# Altium integrated library Silicon Labs Isolation and Power.IntLib: 421 symbols (part 12 of 19)
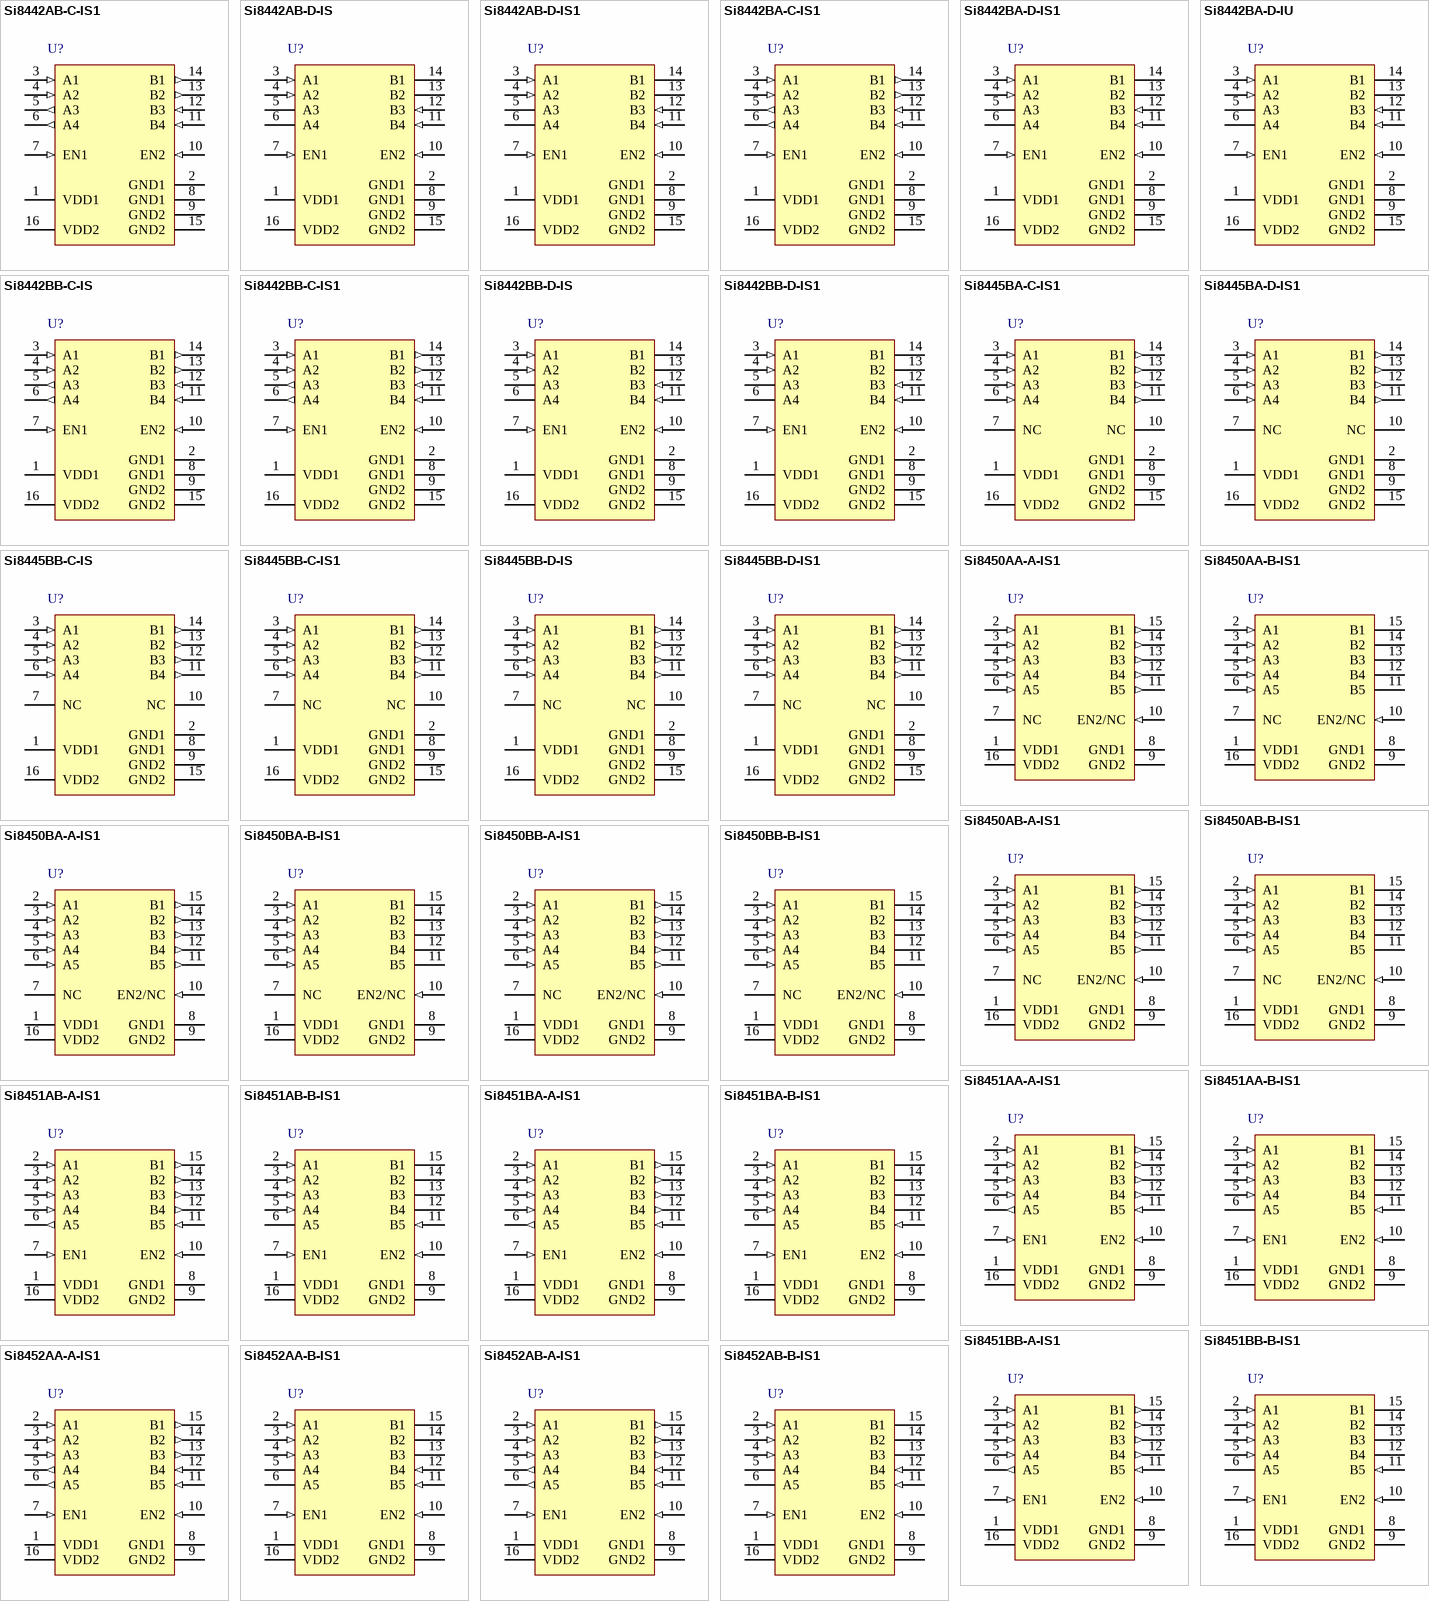
[diagram p25: symbols Si8442AB-C-IS1 to Si8452AB-B-IS1]

## Si8445BB-D-IS1
designator U?
Low-Power Quad-Channel Digital Isolator, 150 Mbps, 2.5 kVRMS Isolation Rating, -40 to 125 degC, 16-pin SOIC; Manufacturer: Silicon Labs; PartNumber: Si8445BB-D-IS1; 10kV surge: FALSE; AEC-Q100: TRUE; Channel Type: Unidirectional; Isolation Rating (kV): 2.5; Maximum Data Rate (Mbps): 150; Maximum Propagation Delay (ns): 9.5; Sub-Family: Isolators; DatasheetVersion: Rev. 1.5; PackageReference: SOIC-16-NB; PackageDescription: 16-Pin Small-Outline Integrated Circuit, Body 9.9 x 3.9 mm, Pitch 1.27 mm; Supplier 1: Digi-Key; Supplier Part Number 1: SI8445BB-D-IS1-ND; Supplier 2: Mouser; Supplier Part Number 2: 634-SI8445BB-D-IS1; Enable Control: FALSE; Mounting Technology: Surface Mount; Code_JEDEC: MS-012; Code_IPC: J-STD-020; ComponentLink1Description: Manufacturer URL; ComponentLink1URL: http://www.silabs.com/; ComponentLink2Description: Datasheet; ComponentLink2URL: http://www.silabs.com/Support%20Documents/TechnicalDocs/Si844x.pdf; ComponentLink3Description: Package Specification; ComponentLink3URL: http://www.silabs.com/Support%20Documents/TechnicalDocs/si2401.pdf
footprint SLAB-SOIC-16-NB_N (SOIC, 16-Leads, Body 9.9x3.9mm, Pitch 1.27mm, IPC Medium Density)
footprint SLAB-SOIC-16-NB_L (SOIC, 16-Leads, Body 9.9x3.9mm, Pitch 1.27mm, IPC High Density)
footprint SLAB-SOIC-16-NB_M (SOIC, 16-Leads, Body 9.9x3.9mm, Pitch 1.27mm, IPC Low Density)
pins: 1 VDD1 (power) "Side 1 power supply.", 2 GND1 (power) "Side 1 ground.", 3 A1 (in) "Side 1 digital input.", 4 A2 (in) "Side 1 digital input.", 5 A3 (in) "Side 1 digital input.", 6 A4 (in) "Side 1 digital input.", 7 NC "No Connect", 8 GND1 (power) "Side 1 ground.", 9 GND2 (power) "Side 2 ground.", 10 NC "No Connect", 11 B4 (out) "Side 2 digital output.", 12 B3 (out) "Side 2 digital output.", 13 B2 (out) "Side 2 digital output.", 14 B1 (out) "Side 2 digital output.", 15 GND2 (power) "Side 2 ground.", 16 VDD2 (power) "Side 2 power supply."

## Si8450AA-A-IS1
designator U?
Low Power Five-Channel Digital Isolator, 1 Mbps, 1 kVRMS Isolation Rating, -40 to 125 degC, 16-pin SOIC; Manufacturer: Silicon Labs; PartNumber: Si8450AA-A-IS1; 10kV surge: FALSE; Channel Type: Unidirectional; Enable Control: TRUE; Isolation Rating (kV): 1; Maximum Propagation Delay (ns): 35; Sub-Family: Isolators; DatasheetVersion: Rev. 1.4; PackageReference: SOIC-16-NB; PackageDescription: 16-Pin Small-Outline Integrated Circuit, Body 9.9 x 3.9 mm, Pitch 1.27 mm; Supplier 1: Digi-Key; Supplier Part Number 1: SI8450AA-A-IS1-ND; AEC-Q100: FALSE; Maximum Data Rate (Mbps): 1; Mounting Technology: Surface Mount; Code_JEDEC: MS-012; Code_IPC: J-STD-020; ComponentLink1Description: Manufacturer URL; ComponentLink1URL: http://www.silabs.com/; ComponentLink2Description: Datasheet; ComponentLink2URL: http://www.silabs.com/Support%20Documents/TechnicalDocs/Si845x.pdf; ComponentLink3Description: Package Specification; ComponentLink3URL: http://www.silabs.com/Support%20Documents/TechnicalDocs/si2401.pdf
footprint SLAB-SOIC-16-NB_N (SOIC, 16-Leads, Body 9.9x3.9mm, Pitch 1.27mm, IPC Medium Density)
footprint SLAB-SOIC-16-NB_L (SOIC, 16-Leads, Body 9.9x3.9mm, Pitch 1.27mm, IPC High Density)
footprint SLAB-SOIC-16-NB_M (SOIC, 16-Leads, Body 9.9x3.9mm, Pitch 1.27mm, IPC Low Density)
pins: 1 VDD1 (power) "Side 1 power supply.", 2 A1 (in) "Side 1 digital input.", 3 A2 (in) "Side 1 digital input.", 4 A3 (in) "Side 1 digital input.", 5 A4 (in) "Side 1 digital input.", 6 A5 (in) "Side 1 digital input.", 7 NC "Side 1 active high enable. NC on Si8450.", 8 GND1 (power) "Side 1 ground.", 9 GND2 (power) "Side 2 ground.", 10 EN2/NC (in), 11 B5 (out) "Side 2 digital output.", 12 B4 (out) "Side 2 digital output.", 13 B3 (out) "Side 2 digital output.", 14 B2 (out) "Side 2 digital output.", 15 B1 (out) "Side 2 digital output.", 16 VDD2 (power) "Side 2 power supply."

## Si8450AA-B-IS1
designator U?
Low Power Five-Channel Digital Isolator, 1 Mbps, 1 kVRMS Isolation Rating, -40 to 125 degC, 16-pin SOIC; Manufacturer: Silicon Labs; PartNumber: Si8450AA-B-IS1; 10kV surge: FALSE; Channel Type: Unidirectional; Enable Control: TRUE; Isolation Rating (kV): 1; Maximum Propagation Delay (ns): 35; Sub-Family: Isolators; DatasheetVersion: Rev. 1.4; PackageReference: SOIC-16-NB; PackageDescription: 16-Pin Small-Outline Integrated Circuit, Body 9.9 x 3.9 mm, Pitch 1.27 mm; Supplier 1: Digi-Key; Supplier Part Number 1: SI8450AA-B-IS1-ND; Supplier 2: Mouser; Supplier Part Number 2: 634-SI8450AA-B-IS1; AEC-Q100: FALSE; Maximum Data Rate (Mbps): 1; Mounting Technology: Surface Mount; Code_JEDEC: MS-012; Code_IPC: J-STD-020; ComponentLink1Description: Manufacturer URL; ComponentLink1URL: http://www.silabs.com/; ComponentLink2Description: Datasheet; ComponentLink2URL: http://www.silabs.com/Support%20Documents/TechnicalDocs/Si845x.pdf; ComponentLink3Description: Package Specification; ComponentLink3URL: http://www.silabs.com/Support%20Documents/TechnicalDocs/si2401.pdf
footprint SLAB-SOIC-16-NB_N (SOIC, 16-Leads, Body 9.9x3.9mm, Pitch 1.27mm, IPC Medium Density)
footprint SLAB-SOIC-16-NB_L (SOIC, 16-Leads, Body 9.9x3.9mm, Pitch 1.27mm, IPC High Density)
footprint SLAB-SOIC-16-NB_M (SOIC, 16-Leads, Body 9.9x3.9mm, Pitch 1.27mm, IPC Low Density)
pins: 1 VDD1 (power) "Side 1 power supply.", 2 A1 (in) "Side 1 digital input.", 3 A2 (in) "Side 1 digital input.", 4 A3 (in) "Side 1 digital input.", 5 A4 (in) "Side 1 digital input.", 6 A5 (in) "Side 1 digital input.", 7 NC "No connection.", 8 GND1 (power) "Side 1 ground.", 9 GND2 (power) "Side 2 ground.", 10 EN2/NC (in) "Side 2 active high enable.No connection.", 11 B5 (hiz) "Side 2 digital output.", 12 B4 (hiz) "Side 2 digital  output.", 13 B3 (hiz) "Side 2 digital output.", 14 B2 (hiz) "Side 2 digital output.", 15 B1 (hiz) "Side 2 digital output.", 16 VDD2 (power) "Side 2 power supply."

## Si8450AB-A-IS1
designator U?
Low Power Five-Channel Digital Isolator, 1 Mbps, 2.5 kVRMS Isolation Rating, -40 to 125 degC, 16-pin SOIC; Manufacturer: Silicon Labs; PartNumber: Si8450AB-A-IS1; 10kV surge: FALSE; Channel Type: Unidirectional; Enable Control: TRUE; Isolation Rating (kV): 2.5; Maximum Data Rate (Mbps): 1; Maximum Propagation Delay (ns): 35; Sub-Family: Isolators; DatasheetVersion: Rev. 1.4; PackageReference: SOIC-16-NB; PackageDescription: 16-Pin Small-Outline Integrated Circuit, Body 9.9 x 3.9 mm, Pitch 1.27 mm; Supplier 1: Digi-Key; Supplier Part Number 1: SI8450AB-A-IS1-ND; Supplier 2: Mouser; Supplier Part Number 2: 634-SI8450AB-A-IS1; AEC-Q100: FALSE; Mounting Technology: Surface Mount; Code_JEDEC: MS-012; Code_IPC: J-STD-020; ComponentLink1Description: Manufacturer URL; ComponentLink1URL: http://www.silabs.com/; ComponentLink2Description: Datasheet; ComponentLink2URL: http://www.silabs.com/Support%20Documents/TechnicalDocs/Si845x.pdf; ComponentLink3Description: Package Specification; ComponentLink3URL: http://www.silabs.com/Support%20Documents/TechnicalDocs/si2401.pdf
footprint SLAB-SOIC-16-NB_N (SOIC, 16-Leads, Body 9.9x3.9mm, Pitch 1.27mm, IPC Medium Density)
footprint SLAB-SOIC-16-NB_L (SOIC, 16-Leads, Body 9.9x3.9mm, Pitch 1.27mm, IPC High Density)
footprint SLAB-SOIC-16-NB_M (SOIC, 16-Leads, Body 9.9x3.9mm, Pitch 1.27mm, IPC Low Density)
pins: 1 VDD1 (power) "Side 1 power supply.", 2 A1 (in) "Side 1 digital input.", 3 A2 (in) "Side 1 digital input.", 4 A3 (in) "Side 1 digital input.", 5 A4 (in) "Side 1 digital input.", 6 A5 (in) "Side 1 digital input.", 7 NC "Side 1 active high enable. NC on Si8450.", 8 GND1 (power) "Side 1 ground.", 9 GND2 (power) "Side 2 ground.", 10 EN2/NC (in), 11 B5 (out) "Side 2 digital output.", 12 B4 (out) "Side 2 digital output.", 13 B3 (out) "Side 2 digital output.", 14 B2 (out) "Side 2 digital output.", 15 B1 (out) "Side 2 digital output.", 16 VDD2 (power) "Side 2 power supply."

## Si8450AB-B-IS1
designator U?
Low Power Five-Channel Digital Isolator, 1 Mbps, 2.5 kVRMS Isolation Rating, -40 to 125 degC, 16-pin SOIC; Manufacturer: Silicon Labs; PartNumber: Si8450AB-B-IS1; 10kV surge: FALSE; Channel Type: Unidirectional; Enable Control: TRUE; Isolation Rating (kV): 2.5; Maximum Data Rate (Mbps): 1; Maximum Propagation Delay (ns): 35; Sub-Family: Isolators; DatasheetVersion: Rev. 1.4; PackageReference: SOIC-16-NB; PackageDescription: 16-Pin Small-Outline Integrated Circuit, Body 9.9 x 3.9 mm, Pitch 1.27 mm; Supplier 1: Digi-Key; Supplier Part Number 1: SI8450AB-B-IS1-ND; Supplier 2: Mouser; Supplier Part Number 2: 634-SI8450AB-B-IS1; AEC-Q100: FALSE; Mounting Technology: Surface Mount; Code_JEDEC: MS-012; Code_IPC: J-STD-020; ComponentLink1Description: Manufacturer URL; ComponentLink1URL: http://www.silabs.com/; ComponentLink2Description: Datasheet; ComponentLink2URL: http://www.silabs.com/Support%20Documents/TechnicalDocs/Si845x.pdf; ComponentLink3Description: Package Specification; ComponentLink3URL: http://www.silabs.com/Support%20Documents/TechnicalDocs/si2401.pdf
footprint SLAB-SOIC-16-NB_N (SOIC, 16-Leads, Body 9.9x3.9mm, Pitch 1.27mm, IPC Medium Density)
footprint SLAB-SOIC-16-NB_L (SOIC, 16-Leads, Body 9.9x3.9mm, Pitch 1.27mm, IPC High Density)
footprint SLAB-SOIC-16-NB_M (SOIC, 16-Leads, Body 9.9x3.9mm, Pitch 1.27mm, IPC Low Density)
pins: 1 VDD1 (power) "Side 1 power supply.", 2 A1 (in) "Side 1 digital input.", 3 A2 (in) "Side 1 digital input.", 4 A3 (in) "Side 1 digital input.", 5 A4 (in) "Side 1 digital input.", 6 A5 (in) "Side 1 digital input.", 7 NC "No connection.", 8 GND1 (power) "Side 1 ground.", 9 GND2 (power) "Side 2 ground.", 10 EN2/NC (in) "Side 2 active high enable.No connection.", 11 B5 (hiz) "Side 2 digital output.", 12 B4 (hiz) "Side 2 digital  output.", 13 B3 (hiz) "Side 2 digital output.", 14 B2 (hiz) "Side 2 digital output.", 15 B1 (hiz) "Side 2 digital output.", 16 VDD2 (power) "Side 2 power supply."

## Si8450BA-A-IS1
designator U?
Low Power Five-Channel Digital Isolator, 150 Mbps, 1 kVRMS Isolation Rating, -40 to 125 degC, 16-pin SOIC; Manufacturer: Silicon Labs; PartNumber: Si8450BA-A-IS1; 10kV surge: FALSE; Channel Type: Unidirectional; Enable Control: TRUE; Isolation Rating (kV): 1; Maximum Data Rate (Mbps): 150; Maximum Propagation Delay (ns): 9.5; Sub-Family: Isolators; DatasheetVersion: Rev. 1.4; PackageReference: SOIC-16-NB; PackageDescription: 16-Pin Small-Outline Integrated Circuit, Body 9.9 x 3.9 mm, Pitch 1.27 mm; Supplier 1: Digi-Key; Supplier Part Number 1: SI8450BA-A-IS1-ND; Supplier 2: Mouser; Supplier Part Number 2: 634-SI8450BA-A-IS1; AEC-Q100: FALSE; Mounting Technology: Surface Mount; Code_JEDEC: MS-012; Code_IPC: J-STD-020; ComponentLink1Description: Manufacturer URL; ComponentLink1URL: http://www.silabs.com/; ComponentLink2Description: Datasheet; ComponentLink2URL: http://www.silabs.com/Support%20Documents/TechnicalDocs/Si845x.pdf; ComponentLink3Description: Package Specification; ComponentLink3URL: http://www.silabs.com/Support%20Documents/TechnicalDocs/si2401.pdf
footprint SLAB-SOIC-16-NB_N (SOIC, 16-Leads, Body 9.9x3.9mm, Pitch 1.27mm, IPC Medium Density)
footprint SLAB-SOIC-16-NB_L (SOIC, 16-Leads, Body 9.9x3.9mm, Pitch 1.27mm, IPC High Density)
footprint SLAB-SOIC-16-NB_M (SOIC, 16-Leads, Body 9.9x3.9mm, Pitch 1.27mm, IPC Low Density)
pins: 1 VDD1 (power) "Side 1 power supply.", 2 A1 (in) "Side 1 digital input.", 3 A2 (in) "Side 1 digital input.", 4 A3 (in) "Side 1 digital input.", 5 A4 (in) "Side 1 digital input.", 6 A5 (in) "Side 1 digital input.", 7 NC "Side 1 active high enable. NC on Si8450.", 8 GND1 (power) "Side 1 ground.", 9 GND2 (power) "Side 2 ground.", 10 EN2/NC (in), 11 B5 (out) "Side 2 digital output.", 12 B4 (out) "Side 2 digital output.", 13 B3 (out) "Side 2 digital output.", 14 B2 (out) "Side 2 digital output.", 15 B1 (out) "Side 2 digital output.", 16 VDD2 (power) "Side 2 power supply."

## Si8450BA-B-IS1
designator U?
Low Power Five-Channel Digital Isolator, 150 Mbps, 1 kVRMS Isolation Rating, -40 to 125 degC, 16-pin SOIC; Manufacturer: Silicon Labs; PartNumber: Si8450BA-B-IS1; 10kV surge: FALSE; Channel Type: Unidirectional; Enable Control: TRUE; Isolation Rating (kV): 1; Maximum Data Rate (Mbps): 150; Maximum Propagation Delay (ns): 9.5; Sub-Family: Isolators; DatasheetVersion: Rev. 1.4; PackageReference: SOIC-16-NB; PackageDescription: 16-Pin Small-Outline Integrated Circuit, Body 9.9 x 3.9 mm, Pitch 1.27 mm; Supplier 1: Digi-Key; Supplier Part Number 1: SI8450BA-B-IS1-ND; Supplier 2: Mouser; Supplier Part Number 2: 634-SI8450BA-B-IS1; AEC-Q100: FALSE; Mounting Technology: Surface Mount; Code_JEDEC: MS-012; Code_IPC: J-STD-020; ComponentLink1Description: Manufacturer URL; ComponentLink1URL: http://www.silabs.com/; ComponentLink2Description: Datasheet; ComponentLink2URL: http://www.silabs.com/Support%20Documents/TechnicalDocs/Si845x.pdf; ComponentLink3Description: Package Specification; ComponentLink3URL: http://www.silabs.com/Support%20Documents/TechnicalDocs/si2401.pdf
footprint SLAB-SOIC-16-NB_N (SOIC, 16-Leads, Body 9.9x3.9mm, Pitch 1.27mm, IPC Medium Density)
footprint SLAB-SOIC-16-NB_L (SOIC, 16-Leads, Body 9.9x3.9mm, Pitch 1.27mm, IPC High Density)
footprint SLAB-SOIC-16-NB_M (SOIC, 16-Leads, Body 9.9x3.9mm, Pitch 1.27mm, IPC Low Density)
pins: 1 VDD1 (power) "Side 1 power supply.", 2 A1 (in) "Side 1 digital input.", 3 A2 (in) "Side 1 digital input.", 4 A3 (in) "Side 1 digital input.", 5 A4 (in) "Side 1 digital input.", 6 A5 (in) "Side 1 digital input.", 7 NC "No connection.", 8 GND1 (power) "Side 1 ground.", 9 GND2 (power) "Side 2 ground.", 10 EN2/NC (in) "Side 2 active high enable.No connection.", 11 B5 (hiz) "Side 2 digital output.", 12 B4 (hiz) "Side 2 digital  output.", 13 B3 (hiz) "Side 2 digital output.", 14 B2 (hiz) "Side 2 digital output.", 15 B1 (hiz) "Side 2 digital output.", 16 VDD2 (power) "Side 2 power supply."

## Si8450BB-A-IS1
designator U?
Low Power Five-Channel Digital Isolator, 150 Mbps, 2.5 kVRMS Isolation Rating, -40 to 125 degC, 16-pin SOIC; Manufacturer: Silicon Labs; PartNumber: Si8450BB-A-IS1; 10kV surge: FALSE; Channel Type: Unidirectional; Enable Control: TRUE; Isolation Rating (kV): 2.5; Maximum Data Rate (Mbps): 150; Maximum Propagation Delay (ns): 9.5; Sub-Family: Isolators; DatasheetVersion: Rev. 1.4; PackageReference: SOIC-16-NB; PackageDescription: 16-Pin Small-Outline Integrated Circuit, Body 9.9 x 3.9 mm, Pitch 1.27 mm; Supplier 1: Digi-Key; Supplier Part Number 1: SI8450BB-A-IS1-ND; AEC-Q100: FALSE; Mounting Technology: Surface Mount; Code_JEDEC: MS-012; Code_IPC: J-STD-020; ComponentLink1Description: Manufacturer URL; ComponentLink1URL: http://www.silabs.com/; ComponentLink2Description: Datasheet; ComponentLink2URL: http://www.silabs.com/Support%20Documents/TechnicalDocs/Si845x.pdf; ComponentLink3Description: Package Specification; ComponentLink3URL: http://www.silabs.com/Support%20Documents/TechnicalDocs/si2401.pdf
footprint SLAB-SOIC-16-NB_N (SOIC, 16-Leads, Body 9.9x3.9mm, Pitch 1.27mm, IPC Medium Density)
footprint SLAB-SOIC-16-NB_L (SOIC, 16-Leads, Body 9.9x3.9mm, Pitch 1.27mm, IPC High Density)
footprint SLAB-SOIC-16-NB_M (SOIC, 16-Leads, Body 9.9x3.9mm, Pitch 1.27mm, IPC Low Density)
pins: 1 VDD1 (power) "Side 1 power supply.", 2 A1 (in) "Side 1 digital input.", 3 A2 (in) "Side 1 digital input.", 4 A3 (in) "Side 1 digital input.", 5 A4 (in) "Side 1 digital input.", 6 A5 (in) "Side 1 digital input.", 7 NC "Side 1 active high enable. NC on Si8450.", 8 GND1 (power) "Side 1 ground.", 9 GND2 (power) "Side 2 ground.", 10 EN2/NC (in), 11 B5 (out) "Side 2 digital output.", 12 B4 (out) "Side 2 digital output.", 13 B3 (out) "Side 2 digital output.", 14 B2 (out) "Side 2 digital output.", 15 B1 (out) "Side 2 digital output.", 16 VDD2 (power) "Side 2 power supply."

## Si8450BB-B-IS1
designator U?
Low Power Five-Channel Digital Isolator, 150 Mbps, 2.5 kVRMS Isolation Rating, -40 to 125 degC, 16-pin SOIC; Manufacturer: Silicon Labs; PartNumber: Si8450BB-B-IS1; 10kV surge: FALSE; Channel Type: Unidirectional; Enable Control: TRUE; Isolation Rating (kV): 2.5; Maximum Data Rate (Mbps): 150; Maximum Propagation Delay (ns): 9.5; Sub-Family: Isolators; DatasheetVersion: Rev. 1.4; PackageReference: SOIC-16-NB; PackageDescription: 16-Pin Small-Outline Integrated Circuit, Body 9.9 x 3.9 mm, Pitch 1.27 mm; Supplier 1: Digi-Key; Supplier Part Number 1: SI8450BB-B-IS1-ND; Supplier 2: Mouser; Supplier Part Number 2: 634-SI8450BB-B-IS1; AEC-Q100: FALSE; Mounting Technology: Surface Mount; Code_JEDEC: MS-012; Code_IPC: J-STD-020; ComponentLink1Description: Manufacturer URL; ComponentLink1URL: http://www.silabs.com/; ComponentLink2Description: Datasheet; ComponentLink2URL: http://www.silabs.com/Support%20Documents/TechnicalDocs/Si845x.pdf; ComponentLink3Description: Package Specification; ComponentLink3URL: http://www.silabs.com/Support%20Documents/TechnicalDocs/si2401.pdf
footprint SLAB-SOIC-16-NB_N (SOIC, 16-Leads, Body 9.9x3.9mm, Pitch 1.27mm, IPC Medium Density)
footprint SLAB-SOIC-16-NB_L (SOIC, 16-Leads, Body 9.9x3.9mm, Pitch 1.27mm, IPC High Density)
footprint SLAB-SOIC-16-NB_M (SOIC, 16-Leads, Body 9.9x3.9mm, Pitch 1.27mm, IPC Low Density)
pins: 1 VDD1 (power) "Side 1 power supply.", 2 A1 (in) "Side 1 digital input.", 3 A2 (in) "Side 1 digital input.", 4 A3 (in) "Side 1 digital input.", 5 A4 (in) "Side 1 digital input.", 6 A5 (in) "Side 1 digital input.", 7 NC "No connection.", 8 GND1 (power) "Side 1 ground.", 9 GND2 (power) "Side 2 ground.", 10 EN2/NC (in) "Side 2 active high enable.No connection.", 11 B5 (hiz) "Side 2 digital output.", 12 B4 (hiz) "Side 2 digital  output.", 13 B3 (hiz) "Side 2 digital output.", 14 B2 (hiz) "Side 2 digital output.", 15 B1 (hiz) "Side 2 digital output.", 16 VDD2 (power) "Side 2 power supply."

## Si8451AA-A-IS1
designator U?
Low Power Five-Channel Digital Isolator, 1 Mbps, 1 kVRMS Isolation Rating, -40 to 125 degC, 16-pin SOIC; Manufacturer: Silicon Labs; PartNumber: Si8451AA-A-IS1; 10kV surge: FALSE; Channel Type: Unidirectional; Enable Control: TRUE; Isolation Rating (kV): 1; Maximum Propagation Delay (ns): 35; Sub-Family: Isolators; DatasheetVersion: Rev. 1.4; PackageReference: SOIC-16-NB; PackageDescription: 16-Pin Small-Outline Integrated Circuit, Body 9.9 x 3.9 mm, Pitch 1.27 mm; Supplier 1: Digi-Key; Supplier Part Number 1: SI8451AA-A-IS1-ND; AEC-Q100: FALSE; Maximum Data Rate (Mbps): 1; Mounting Technology: Surface Mount; Code_JEDEC: MS-012; Code_IPC: J-STD-020; ComponentLink1Description: Manufacturer URL; ComponentLink1URL: http://www.silabs.com/; ComponentLink2Description: Datasheet; ComponentLink2URL: http://www.silabs.com/Support%20Documents/TechnicalDocs/Si845x.pdf; ComponentLink3Description: Package Specification; ComponentLink3URL: http://www.silabs.com/Support%20Documents/TechnicalDocs/si2401.pdf
footprint SLAB-SOIC-16-NB_N (SOIC, 16-Leads, Body 9.9x3.9mm, Pitch 1.27mm, IPC Medium Density)
footprint SLAB-SOIC-16-NB_L (SOIC, 16-Leads, Body 9.9x3.9mm, Pitch 1.27mm, IPC High Density)
footprint SLAB-SOIC-16-NB_M (SOIC, 16-Leads, Body 9.9x3.9mm, Pitch 1.27mm, IPC Low Density)
pins: 1 VDD1 (power) "Side 1 power supply.", 2 A1 (in) "Side 1 digital input.", 3 A2 (in) "Side 1 digital input.", 4 A3 (in) "Side 1 digital input.", 5 A4 (in) "Side 1 digital input.", 6 A5 (out) "Side 1 digital output.", 7 EN1 (in) "Side 1 active high enable.", 8 GND1 (power) "Side 1 ground.", 9 GND2 (power) "Side 2 ground.", 10 EN2 (in) "Side 2 active high enable.", 11 B5 (in) "Side 2 digital input.", 12 B4 (out) "Side 2 digital output.", 13 B3 (out) "Side 2 digital output.", 14 B2 (out) "Side 2 digital output.", 15 B1 (out) "Side 2 digital output.", 16 VDD2 (power) "Side 2 power supply."

## Si8451AA-B-IS1
designator U?
Low Power Five-Channel Digital Isolator, 1 Mbps, 1 kVRMS Isolation Rating, -40 to 125 degC, 16-pin SOIC; Manufacturer: Silicon Labs; PartNumber: Si8451AA-B-IS1; 10kV surge: FALSE; Channel Type: Unidirectional; Enable Control: TRUE; Isolation Rating (kV): 1; Maximum Propagation Delay (ns): 35; Sub-Family: Isolators; DatasheetVersion: Rev. 1.4; PackageReference: SOIC-16-NB; PackageDescription: 16-Pin Small-Outline Integrated Circuit, Body 9.9 x 3.9 mm, Pitch 1.27 mm; Supplier 1: Digi-Key; Supplier Part Number 1: SI8451AA-B-IS1-ND; Supplier 2: Mouser; Supplier Part Number 2: 634-SI8451AA-B-IS1; AEC-Q100: FALSE; Maximum Data Rate (Mbps): 1; Mounting Technology: Surface Mount; Code_JEDEC: MS-012; Code_IPC: J-STD-020; ComponentLink1Description: Manufacturer URL; ComponentLink1URL: http://www.silabs.com/; ComponentLink2Description: Datasheet; ComponentLink2URL: http://www.silabs.com/Support%20Documents/TechnicalDocs/Si845x.pdf; ComponentLink3Description: Package Specification; ComponentLink3URL: http://www.silabs.com/Support%20Documents/TechnicalDocs/si2401.pdf
footprint SLAB-SOIC-16-NB_N (SOIC, 16-Leads, Body 9.9x3.9mm, Pitch 1.27mm, IPC Medium Density)
footprint SLAB-SOIC-16-NB_L (SOIC, 16-Leads, Body 9.9x3.9mm, Pitch 1.27mm, IPC High Density)
footprint SLAB-SOIC-16-NB_M (SOIC, 16-Leads, Body 9.9x3.9mm, Pitch 1.27mm, IPC Low Density)
pins: 1 VDD1 (power) "Side 1 power supply.", 2 A1 (in) "Side 1 digital input.", 3 A2 (in) "Side 1 digital input.", 4 A3 (in) "Side 1 digital input.", 5 A4 (in) "Side 1 digital input", 6 A5 (hiz) "Side 1 digital output.", 7 EN1 (in) "Side 1 active high enable.", 8 GND1 (power) "Side 1 ground.", 9 GND2 (power) "Side 2 ground.", 10 EN2 (in) "Side 2 active high enable.", 11 B5 (in) "Side 2 digital input", 12 B4 (hiz) "Side 2 digital output.", 13 B3 (hiz) "Side 2 digital output.", 14 B2 (hiz) "Side 2 digital output.", 15 B1 (hiz) "Side 2 digital output.", 16 VDD2 (power) "Side 2 power supply."

## Si8451AB-A-IS1
designator U?
Low Power Five-Channel Digital Isolator, 1 Mbps, 2.5 kVRMS Isolation Rating, -40 to 125 degC, 16-pin SOIC; Manufacturer: Silicon Labs; PartNumber: Si8451AB-A-IS1; 10kV surge: FALSE; Channel Type: Unidirectional; Enable Control: TRUE; Isolation Rating (kV): 2.5; Maximum Data Rate (Mbps): 1; Maximum Propagation Delay (ns): 35; Sub-Family: Isolators; DatasheetVersion: Rev. 1.4; PackageReference: SOIC-16-NB; PackageDescription: 16-Pin Small-Outline Integrated Circuit, Body 9.9 x 3.9 mm, Pitch 1.27 mm; Supplier 1: Digi-Key; Supplier Part Number 1: SI8451AB-A-IS1-ND; AEC-Q100: FALSE; Mounting Technology: Surface Mount; Code_JEDEC: MS-012; Code_IPC: J-STD-020; ComponentLink1Description: Manufacturer URL; ComponentLink1URL: http://www.silabs.com/; ComponentLink2Description: Datasheet; ComponentLink2URL: http://www.silabs.com/Support%20Documents/TechnicalDocs/Si845x.pdf; ComponentLink3Description: Package Specification; ComponentLink3URL: http://www.silabs.com/Support%20Documents/TechnicalDocs/si2401.pdf
footprint SLAB-SOIC-16-NB_N (SOIC, 16-Leads, Body 9.9x3.9mm, Pitch 1.27mm, IPC Medium Density)
footprint SLAB-SOIC-16-NB_L (SOIC, 16-Leads, Body 9.9x3.9mm, Pitch 1.27mm, IPC High Density)
footprint SLAB-SOIC-16-NB_M (SOIC, 16-Leads, Body 9.9x3.9mm, Pitch 1.27mm, IPC Low Density)
pins: 1 VDD1 (power) "Side 1 power supply.", 2 A1 (in) "Side 1 digital input.", 3 A2 (in) "Side 1 digital input.", 4 A3 (in) "Side 1 digital input.", 5 A4 (in) "Side 1 digital input.", 6 A5 (out) "Side 1 digital output.", 7 EN1 (in) "Side 1 active high enable.", 8 GND1 (power) "Side 1 ground.", 9 GND2 (power) "Side 2 ground.", 10 EN2 (in) "Side 2 active high enable.", 11 B5 (in) "Side 2 digital input.", 12 B4 (out) "Side 2 digital output.", 13 B3 (out) "Side 2 digital output.", 14 B2 (out) "Side 2 digital output.", 15 B1 (out) "Side 2 digital output.", 16 VDD2 (power) "Side 2 power supply."

## Si8451AB-B-IS1
designator U?
Low Power Five-Channel Digital Isolator, 1 Mbps, 2.5 kVRMS Isolation Rating, -40 to 125 degC, 16-pin SOIC; Manufacturer: Silicon Labs; PartNumber: Si8451AB-B-IS1; 10kV surge: FALSE; Channel Type: Unidirectional; Enable Control: TRUE; Isolation Rating (kV): 2.5; Maximum Data Rate (Mbps): 1; Maximum Propagation Delay (ns): 35; Sub-Family: Isolators; DatasheetVersion: Rev. 1.4; PackageReference: SOIC-16-NB; PackageDescription: 16-Pin Small-Outline Integrated Circuit, Body 9.9 x 3.9 mm, Pitch 1.27 mm; Supplier 1: Digi-Key; Supplier Part Number 1: SI8451AB-B-IS1-ND; Supplier 2: Mouser; Supplier Part Number 2: 634-SI8451AB-B-IS1; AEC-Q100: FALSE; Mounting Technology: Surface Mount; Code_JEDEC: MS-012; Code_IPC: J-STD-020; ComponentLink1Description: Manufacturer URL; ComponentLink1URL: http://www.silabs.com/; ComponentLink2Description: Datasheet; ComponentLink2URL: http://www.silabs.com/Support%20Documents/TechnicalDocs/Si845x.pdf; ComponentLink3Description: Package Specification; ComponentLink3URL: http://www.silabs.com/Support%20Documents/TechnicalDocs/si2401.pdf
footprint SLAB-SOIC-16-NB_N (SOIC, 16-Leads, Body 9.9x3.9mm, Pitch 1.27mm, IPC Medium Density)
footprint SLAB-SOIC-16-NB_L (SOIC, 16-Leads, Body 9.9x3.9mm, Pitch 1.27mm, IPC High Density)
footprint SLAB-SOIC-16-NB_M (SOIC, 16-Leads, Body 9.9x3.9mm, Pitch 1.27mm, IPC Low Density)
pins: 1 VDD1 (power) "Side 1 power supply.", 2 A1 (in) "Side 1 digital input.", 3 A2 (in) "Side 1 digital input.", 4 A3 (in) "Side 1 digital input.", 5 A4 (in) "Side 1 digital input", 6 A5 (hiz) "Side 1 digital output.", 7 EN1 (in) "Side 1 active high enable.", 8 GND1 (power) "Side 1 ground.", 9 GND2 (power) "Side 2 ground.", 10 EN2 (in) "Side 2 active high enable.", 11 B5 (in) "Side 2 digital input", 12 B4 (hiz) "Side 2 digital output.", 13 B3 (hiz) "Side 2 digital output.", 14 B2 (hiz) "Side 2 digital output.", 15 B1 (hiz) "Side 2 digital output.", 16 VDD2 (power) "Side 2 power supply."

## Si8451BA-A-IS1
designator U?
Low Power Five-Channel Digital Isolator, 150 Mbps, 1 kVRMS Isolation Rating, -40 to 125 degC, 16-pin SOIC; Manufacturer: Silicon Labs; PartNumber: Si8451BA-A-IS1; 10kV surge: FALSE; Channel Type: Unidirectional; Enable Control: TRUE; Isolation Rating (kV): 1; Maximum Data Rate (Mbps): 150; Maximum Propagation Delay (ns): 9.5; Sub-Family: Isolators; DatasheetVersion: Rev. 1.4; PackageReference: SOIC-16-NB; PackageDescription: 16-Pin Small-Outline Integrated Circuit, Body 9.9 x 3.9 mm, Pitch 1.27 mm; Supplier 1: Digi-Key; Supplier Part Number 1: SI8451BA-A-IS1-ND; AEC-Q100: FALSE; Mounting Technology: Surface Mount; Code_JEDEC: MS-012; Code_IPC: J-STD-020; ComponentLink1Description: Manufacturer URL; ComponentLink1URL: http://www.silabs.com/; ComponentLink2Description: Datasheet; ComponentLink2URL: http://www.silabs.com/Support%20Documents/TechnicalDocs/Si845x.pdf; ComponentLink3Description: Package Specification; ComponentLink3URL: http://www.silabs.com/Support%20Documents/TechnicalDocs/si2401.pdf
footprint SLAB-SOIC-16-NB_N (SOIC, 16-Leads, Body 9.9x3.9mm, Pitch 1.27mm, IPC Medium Density)
footprint SLAB-SOIC-16-NB_L (SOIC, 16-Leads, Body 9.9x3.9mm, Pitch 1.27mm, IPC High Density)
footprint SLAB-SOIC-16-NB_M (SOIC, 16-Leads, Body 9.9x3.9mm, Pitch 1.27mm, IPC Low Density)
pins: 1 VDD1 (power) "Side 1 power supply.", 2 A1 (in) "Side 1 digital input.", 3 A2 (in) "Side 1 digital input.", 4 A3 (in) "Side 1 digital input.", 5 A4 (in) "Side 1 digital input.", 6 A5 (out) "Side 1 digital output.", 7 EN1 (in) "Side 1 active high enable.", 8 GND1 (power) "Side 1 ground.", 9 GND2 (power) "Side 2 ground.", 10 EN2 (in) "Side 2 active high enable.", 11 B5 (in) "Side 2 digital input.", 12 B4 (out) "Side 2 digital output.", 13 B3 (out) "Side 2 digital output.", 14 B2 (out) "Side 2 digital output.", 15 B1 (out) "Side 2 digital output.", 16 VDD2 (power) "Side 2 power supply."

## Si8451BA-B-IS1
designator U?
Low Power Five-Channel Digital Isolator, 150 Mbps, 1 kVRMS Isolation Rating, -40 to 125 degC, 16-pin SOIC; Manufacturer: Silicon Labs; PartNumber: Si8451BA-B-IS1; 10kV surge: FALSE; Channel Type: Unidirectional; Enable Control: TRUE; Isolation Rating (kV): 1; Maximum Data Rate (Mbps): 150; Maximum Propagation Delay (ns): 9.5; Sub-Family: Isolators; DatasheetVersion: Rev. 1.4; PackageReference: SOIC-16-NB; PackageDescription: 16-Pin Small-Outline Integrated Circuit, Body 9.9 x 3.9 mm, Pitch 1.27 mm; Supplier 1: Digi-Key; Supplier Part Number 1: SI8451BA-B-IS1-ND; Supplier 2: Mouser; Supplier Part Number 2: 634-SI8451BA-B-IS1; AEC-Q100: FALSE; Mounting Technology: Surface Mount; Code_JEDEC: MS-012; Code_IPC: J-STD-020; ComponentLink1Description: Manufacturer URL; ComponentLink1URL: http://www.silabs.com/; ComponentLink2Description: Datasheet; ComponentLink2URL: http://www.silabs.com/Support%20Documents/TechnicalDocs/Si845x.pdf; ComponentLink3Description: Package Specification; ComponentLink3URL: http://www.silabs.com/Support%20Documents/TechnicalDocs/si2401.pdf
footprint SLAB-SOIC-16-NB_N (SOIC, 16-Leads, Body 9.9x3.9mm, Pitch 1.27mm, IPC Medium Density)
footprint SLAB-SOIC-16-NB_L (SOIC, 16-Leads, Body 9.9x3.9mm, Pitch 1.27mm, IPC High Density)
footprint SLAB-SOIC-16-NB_M (SOIC, 16-Leads, Body 9.9x3.9mm, Pitch 1.27mm, IPC Low Density)
pins: 1 VDD1 (power) "Side 1 power supply.", 2 A1 (in) "Side 1 digital input.", 3 A2 (in) "Side 1 digital input.", 4 A3 (in) "Side 1 digital input.", 5 A4 (in) "Side 1 digital input", 6 A5 (hiz) "Side 1 digital output.", 7 EN1 (in) "Side 1 active high enable.", 8 GND1 (power) "Side 1 ground.", 9 GND2 (power) "Side 2 ground.", 10 EN2 (in) "Side 2 active high enable.", 11 B5 (in) "Side 2 digital input", 12 B4 (hiz) "Side 2 digital output.", 13 B3 (hiz) "Side 2 digital output.", 14 B2 (hiz) "Side 2 digital output.", 15 B1 (hiz) "Side 2 digital output.", 16 VDD2 (power) "Side 2 power supply."

## Si8451BB-A-IS1
designator U?
Low Power Five-Channel Digital Isolator, 150 Mbps, 2.5 kVRMS Isolation Rating, -40 to 125 degC, 16-pin SOIC; Manufacturer: Silicon Labs; PartNumber: Si8451BB-A-IS1; 10kV surge: FALSE; Channel Type: Unidirectional; Enable Control: TRUE; Isolation Rating (kV): 2.5; Maximum Data Rate (Mbps): 150; Maximum Propagation Delay (ns): 9.5; Sub-Family: Isolators; DatasheetVersion: Rev. 1.4; PackageReference: SOIC-16-NB; PackageDescription: 16-Pin Small-Outline Integrated Circuit, Body 9.9 x 3.9 mm, Pitch 1.27 mm; Supplier 1: Digi-Key; Supplier Part Number 1: SI8451BB-A-IS1-ND; AEC-Q100: FALSE; Mounting Technology: Surface Mount; Code_JEDEC: MS-012; Code_IPC: J-STD-020; ComponentLink1Description: Manufacturer URL; ComponentLink1URL: http://www.silabs.com/; ComponentLink2Description: Datasheet; ComponentLink2URL: http://www.silabs.com/Support%20Documents/TechnicalDocs/Si845x.pdf; ComponentLink3Description: Package Specification; ComponentLink3URL: http://www.silabs.com/Support%20Documents/TechnicalDocs/si2401.pdf
footprint SLAB-SOIC-16-NB_N (SOIC, 16-Leads, Body 9.9x3.9mm, Pitch 1.27mm, IPC Medium Density)
footprint SLAB-SOIC-16-NB_L (SOIC, 16-Leads, Body 9.9x3.9mm, Pitch 1.27mm, IPC High Density)
footprint SLAB-SOIC-16-NB_M (SOIC, 16-Leads, Body 9.9x3.9mm, Pitch 1.27mm, IPC Low Density)
pins: 1 VDD1 (power) "Side 1 power supply.", 2 A1 (in) "Side 1 digital input.", 3 A2 (in) "Side 1 digital input.", 4 A3 (in) "Side 1 digital input.", 5 A4 (in) "Side 1 digital input.", 6 A5 (out) "Side 1 digital output.", 7 EN1 (in) "Side 1 active high enable.", 8 GND1 (power) "Side 1 ground.", 9 GND2 (power) "Side 2 ground.", 10 EN2 (in) "Side 2 active high enable.", 11 B5 (in) "Side 2 digital input.", 12 B4 (out) "Side 2 digital output.", 13 B3 (out) "Side 2 digital output.", 14 B2 (out) "Side 2 digital output.", 15 B1 (out) "Side 2 digital output.", 16 VDD2 (power) "Side 2 power supply."

## Si8451BB-B-IS1
designator U?
Low Power Five-Channel Digital Isolator, 150 Mbps, 2.5 kVRMS Isolation Rating, -40 to 125 degC, 16-pin SOIC; Manufacturer: Silicon Labs; PartNumber: Si8451BB-B-IS1; 10kV surge: FALSE; Channel Type: Unidirectional; Enable Control: TRUE; Isolation Rating (kV): 2.5; Maximum Data Rate (Mbps): 150; Maximum Propagation Delay (ns): 9.5; Sub-Family: Isolators; DatasheetVersion: Rev. 1.4; PackageReference: SOIC-16-NB; PackageDescription: 16-Pin Small-Outline Integrated Circuit, Body 9.9 x 3.9 mm, Pitch 1.27 mm; Supplier 1: Digi-Key; Supplier Part Number 1: SI8451BB-B-IS1-ND; Supplier 2: Mouser; Supplier Part Number 2: 634-SI8451BB-B-IS1; AEC-Q100: FALSE; Mounting Technology: Surface Mount; Code_JEDEC: MS-012; Code_IPC: J-STD-020; ComponentLink1Description: Manufacturer URL; ComponentLink1URL: http://www.silabs.com/; ComponentLink2Description: Datasheet; ComponentLink2URL: http://www.silabs.com/Support%20Documents/TechnicalDocs/Si845x.pdf; ComponentLink3Description: Package Specification; ComponentLink3URL: http://www.silabs.com/Support%20Documents/TechnicalDocs/si2401.pdf
footprint SLAB-SOIC-16-NB_N (SOIC, 16-Leads, Body 9.9x3.9mm, Pitch 1.27mm, IPC Medium Density)
footprint SLAB-SOIC-16-NB_L (SOIC, 16-Leads, Body 9.9x3.9mm, Pitch 1.27mm, IPC High Density)
footprint SLAB-SOIC-16-NB_M (SOIC, 16-Leads, Body 9.9x3.9mm, Pitch 1.27mm, IPC Low Density)
pins: 1 VDD1 (power) "Side 1 power supply.", 2 A1 (in) "Side 1 digital input.", 3 A2 (in) "Side 1 digital input.", 4 A3 (in) "Side 1 digital input.", 5 A4 (in) "Side 1 digital input", 6 A5 (hiz) "Side 1 digital output.", 7 EN1 (in) "Side 1 active high enable.", 8 GND1 (power) "Side 1 ground.", 9 GND2 (power) "Side 2 ground.", 10 EN2 (in) "Side 2 active high enable.", 11 B5 (in) "Side 2 digital input", 12 B4 (hiz) "Side 2 digital output.", 13 B3 (hiz) "Side 2 digital output.", 14 B2 (hiz) "Side 2 digital output.", 15 B1 (hiz) "Side 2 digital output.", 16 VDD2 (power) "Side 2 power supply."

## Si8452AA-A-IS1
designator U?
Low Power Five-Channel Digital Isolator, 1 Mbps, 1 kVRMS Isolation Rating, -40 to 125 degC, 16-pin SOIC; Manufacturer: Silicon Labs; PartNumber: Si8452AA-A-IS1; 10kV surge: FALSE; Channel Type: Unidirectional; Enable Control: TRUE; Isolation Rating (kV): 1; Maximum Propagation Delay (ns): 35; Sub-Family: Isolators; DatasheetVersion: Rev. 1.4; PackageReference: SOIC-16-NB; PackageDescription: 16-Pin Small-Outline Integrated Circuit, Body 9.9 x 3.9 mm, Pitch 1.27 mm; Supplier 1: Digi-Key; Supplier Part Number 1: SI8452AA-A-IS1-ND; Supplier 2: Mouser; Supplier Part Number 2: 634-SI8452AA-A-IS1; AEC-Q100: FALSE; Maximum Data Rate (Mbps): 1; Mounting Technology: Surface Mount; Code_JEDEC: MS-012; Code_IPC: J-STD-020; ComponentLink1Description: Manufacturer URL; ComponentLink1URL: http://www.silabs.com/; ComponentLink2Description: Datasheet; ComponentLink2URL: http://www.silabs.com/Support%20Documents/TechnicalDocs/Si845x.pdf; ComponentLink3Description: Package Specification; ComponentLink3URL: http://www.silabs.com/Support%20Documents/TechnicalDocs/si2401.pdf
footprint SLAB-SOIC-16-NB_N (SOIC, 16-Leads, Body 9.9x3.9mm, Pitch 1.27mm, IPC Medium Density)
footprint SLAB-SOIC-16-NB_L (SOIC, 16-Leads, Body 9.9x3.9mm, Pitch 1.27mm, IPC High Density)
footprint SLAB-SOIC-16-NB_M (SOIC, 16-Leads, Body 9.9x3.9mm, Pitch 1.27mm, IPC Low Density)
pins: 1 VDD1 (power) "Side 1 power supply.", 2 A1 (in) "Side 1 digital input.", 3 A2 (in) "Side 1 digital input.", 4 A3 (in) "Side 1 digital input.", 5 A4 (out) "Side 1 digital output.", 6 A5 (out) "Side 1 digital output.", 7 EN1 (in) "Side 1 active high enable.", 8 GND1 (power) "Side 1 ground.", 9 GND2 (power) "Side 2 ground.", 10 EN2 (in) "Side 2 active high enable.", 11 B5 (in) "Side 2 digital input", 12 B4 (in) "Side 2 digital input", 13 B3 (out) "Side 2 digital output.", 14 B2 (out) "Side 2 digital output.", 15 B1 (out) "Side 2 digital output.", 16 VDD2 (power) "Side 2 power supply."

## Si8452AA-B-IS1
designator U?
Low Power Five-Channel Digital Isolator, 1 Mbps, 1 kVRMS Isolation Rating, -40 to 125 degC, 16-pin SOIC; Manufacturer: Silicon Labs; PartNumber: Si8452AA-B-IS1; 10kV surge: FALSE; Channel Type: Unidirectional; Enable Control: TRUE; Isolation Rating (kV): 1; Maximum Propagation Delay (ns): 35; Sub-Family: Isolators; DatasheetVersion: Rev. 1.4; PackageReference: SOIC-16-NB; PackageDescription: 16-Pin Small-Outline Integrated Circuit, Body 9.9 x 3.9 mm, Pitch 1.27 mm; Supplier 1: Digi-Key; Supplier Part Number 1: SI8452AA-B-IS1-ND; Supplier 2: Mouser; Supplier Part Number 2: 634-SI8452AA-B-IS1; AEC-Q100: FALSE; Maximum Data Rate (Mbps): 1; Mounting Technology: Surface Mount; Code_JEDEC: MS-012; Code_IPC: J-STD-020; ComponentLink1Description: Manufacturer URL; ComponentLink1URL: http://www.silabs.com/; ComponentLink2Description: Datasheet; ComponentLink2URL: http://www.silabs.com/Support%20Documents/TechnicalDocs/Si845x.pdf; ComponentLink3Description: Package Specification; ComponentLink3URL: http://www.silabs.com/Support%20Documents/TechnicalDocs/si2401.pdf
footprint SLAB-SOIC-16-NB_N (SOIC, 16-Leads, Body 9.9x3.9mm, Pitch 1.27mm, IPC Medium Density)
footprint SLAB-SOIC-16-NB_L (SOIC, 16-Leads, Body 9.9x3.9mm, Pitch 1.27mm, IPC High Density)
footprint SLAB-SOIC-16-NB_M (SOIC, 16-Leads, Body 9.9x3.9mm, Pitch 1.27mm, IPC Low Density)
pins: 1 VDD1 (power) "Side 1 power supply.", 2 A1 (in) "Side 1 digital input.", 3 A2 (in) "Side 1 digital input.", 4 A3 (in) "Side 1 digital input.", 5 A4 (hiz) "Side 1 digital output.", 6 A5 (hiz) "Side 1 digital output.", 7 EN1 (in) "Side 1 active high enable.", 8 GND1 (power) "Side 1 ground.", 9 GND2 (power) "Side 2 ground.", 10 EN2 (in) "Side 2 active high enable.", 11 B5 (in) "Side 2 digital input", 12 B4 (in) "Side 2 digital input", 13 B3 (hiz) "Side 2 digital output.", 14 B2 (hiz) "Side 2 digital output.", 15 B1 (hiz) "Side 2 digital output.", 16 VDD2 (power) "Side 2 power supply."

## Si8452AB-A-IS1
designator U?
Low Power Five-Channel Digital Isolator, 1 Mbps, 2.5 kVRMS Isolation Rating, -40 to 125 degC, 16-pin SOIC; Manufacturer: Silicon Labs; PartNumber: Si8452AB-A-IS1; 10kV surge: FALSE; Channel Type: Unidirectional; Enable Control: TRUE; Isolation Rating (kV): 2.5; Maximum Data Rate (Mbps): 1; Maximum Propagation Delay (ns): 35; Sub-Family: Isolators; DatasheetVersion: Rev. 1.4; PackageReference: SOIC-16-NB; PackageDescription: 16-Pin Small-Outline Integrated Circuit, Body 9.9 x 3.9 mm, Pitch 1.27 mm; Supplier 1: Digi-Key; Supplier Part Number 1: SI8452AB-A-IS1-ND; Supplier 2: Mouser; Supplier Part Number 2: 634-SI8452AB-A-IS1; AEC-Q100: FALSE; Mounting Technology: Surface Mount; Code_JEDEC: MS-012; Code_IPC: J-STD-020; ComponentLink1Description: Manufacturer URL; ComponentLink1URL: http://www.silabs.com/; ComponentLink2Description: Datasheet; ComponentLink2URL: http://www.silabs.com/Support%20Documents/TechnicalDocs/Si845x.pdf; ComponentLink3Description: Package Specification; ComponentLink3URL: http://www.silabs.com/Support%20Documents/TechnicalDocs/si2401.pdf
footprint SLAB-SOIC-16-NB_N (SOIC, 16-Leads, Body 9.9x3.9mm, Pitch 1.27mm, IPC Medium Density)
footprint SLAB-SOIC-16-NB_L (SOIC, 16-Leads, Body 9.9x3.9mm, Pitch 1.27mm, IPC High Density)
footprint SLAB-SOIC-16-NB_M (SOIC, 16-Leads, Body 9.9x3.9mm, Pitch 1.27mm, IPC Low Density)
pins: 1 VDD1 (power) "Side 1 power supply.", 2 A1 (in) "Side 1 digital input.", 3 A2 (in) "Side 1 digital input.", 4 A3 (in) "Side 1 digital input.", 5 A4 (out) "Side 1 digital output.", 6 A5 (out) "Side 1 digital output.", 7 EN1 (in) "Side 1 active high enable.", 8 GND1 (power) "Side 1 ground.", 9 GND2 (power) "Side 2 ground.", 10 EN2 (in) "Side 2 active high enable.", 11 B5 (in) "Side 2 digital input", 12 B4 (in) "Side 2 digital input", 13 B3 (out) "Side 2 digital output.", 14 B2 (out) "Side 2 digital output.", 15 B1 (out) "Side 2 digital output.", 16 VDD2 (power) "Side 2 power supply."

## Si8452AB-B-IS1
designator U?
Low Power Five-Channel Digital Isolator, 1 Mbps, 2.5 kVRMS Isolation Rating, -40 to 125 degC, 16-pin SOIC; Manufacturer: Silicon Labs; PartNumber: Si8452AB-B-IS1; 10kV surge: FALSE; Channel Type: Unidirectional; Enable Control: TRUE; Isolation Rating (kV): 2.5; Maximum Data Rate (Mbps): 1; Maximum Propagation Delay (ns): 35; Sub-Family: Isolators; DatasheetVersion: Rev. 1.4; PackageReference: SOIC-16-NB; PackageDescription: 16-Pin Small-Outline Integrated Circuit, Body 9.9 x 3.9 mm, Pitch 1.27 mm; Supplier 1: Digi-Key; Supplier Part Number 1: SI8452AB-B-IS1-ND; Supplier 2: Mouser; Supplier Part Number 2: 634-SI8452AB-B-IS1; AEC-Q100: FALSE; Mounting Technology: Surface Mount; Code_JEDEC: MS-012; Code_IPC: J-STD-020; ComponentLink1Description: Manufacturer URL; ComponentLink1URL: http://www.silabs.com/; ComponentLink2Description: Datasheet; ComponentLink2URL: http://www.silabs.com/Support%20Documents/TechnicalDocs/Si845x.pdf; ComponentLink3Description: Package Specification; ComponentLink3URL: http://www.silabs.com/Support%20Documents/TechnicalDocs/si2401.pdf
footprint SLAB-SOIC-16-NB_N (SOIC, 16-Leads, Body 9.9x3.9mm, Pitch 1.27mm, IPC Medium Density)
footprint SLAB-SOIC-16-NB_L (SOIC, 16-Leads, Body 9.9x3.9mm, Pitch 1.27mm, IPC High Density)
footprint SLAB-SOIC-16-NB_M (SOIC, 16-Leads, Body 9.9x3.9mm, Pitch 1.27mm, IPC Low Density)
pins: 1 VDD1 (power) "Side 1 power supply.", 2 A1 (in) "Side 1 digital input.", 3 A2 (in) "Side 1 digital input.", 4 A3 (in) "Side 1 digital input.", 5 A4 (hiz) "Side 1 digital output.", 6 A5 (hiz) "Side 1 digital output.", 7 EN1 (in) "Side 1 active high enable.", 8 GND1 (power) "Side 1 ground.", 9 GND2 (power) "Side 2 ground.", 10 EN2 (in) "Side 2 active high enable.", 11 B5 (in) "Side 2 digital input", 12 B4 (in) "Side 2 digital input", 13 B3 (hiz) "Side 2 digital output.", 14 B2 (hiz) "Side 2 digital output.", 15 B1 (hiz) "Side 2 digital output.", 16 VDD2 (power) "Side 2 power supply."

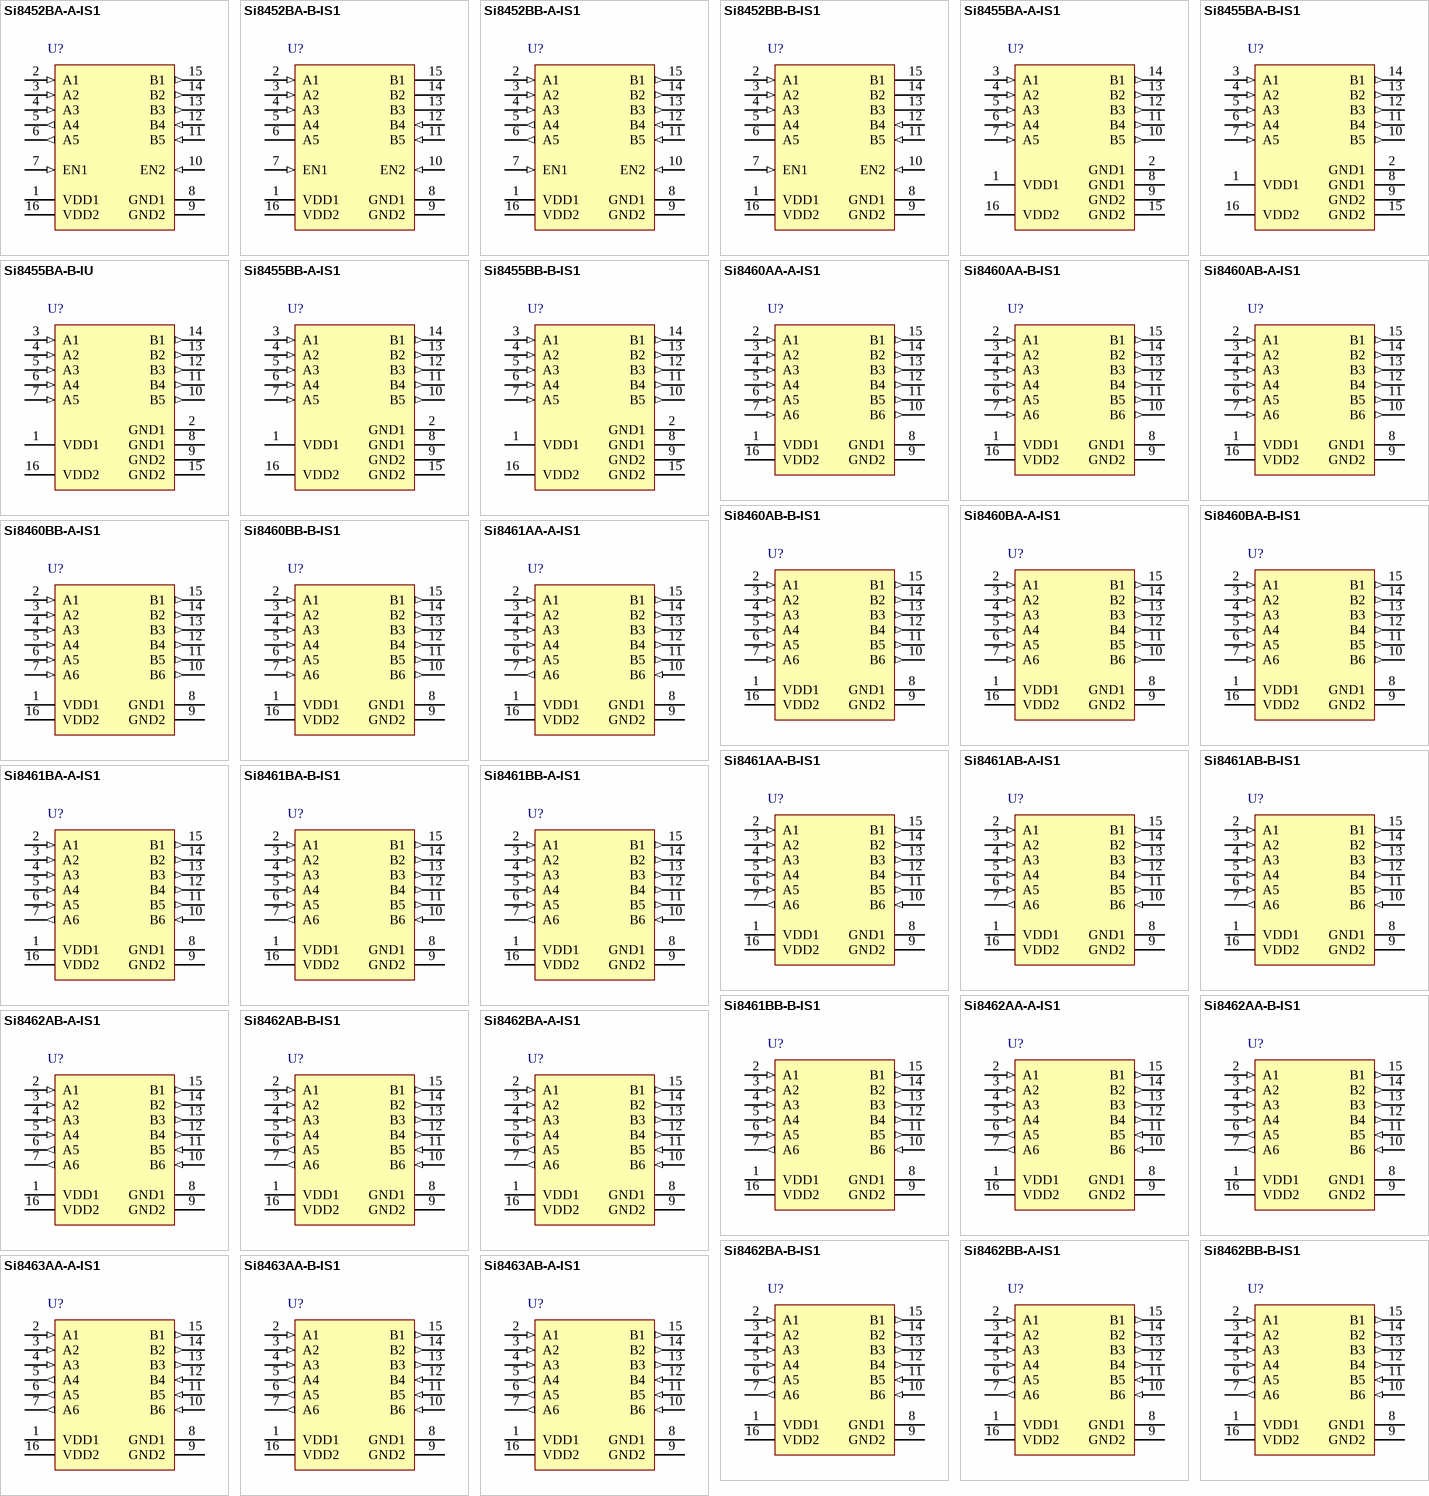
[diagram p9: symbols Si8452BA-A-IS1 to Si8463AB-A-IS1]

## Si8452BA-A-IS1
designator U?
Low Power Five-Channel Digital Isolator, 150 Mbps, 1 kVRMS Isolation Rating, -40 to 125 degC, 16-pin SOIC; Manufacturer: Silicon Labs; PartNumber: Si8452BA-A-IS1; 10kV surge: FALSE; Channel Type: Unidirectional; Enable Control: TRUE; Isolation Rating (kV): 1; Maximum Data Rate (Mbps): 150; Maximum Propagation Delay (ns): 9.5; Sub-Family: Isolators; DatasheetVersion: Rev. 1.4; PackageReference: SOIC-16-NB; PackageDescription: 16-Pin Small-Outline Integrated Circuit, Body 9.9 x 3.9 mm, Pitch 1.27 mm; Supplier 1: Digi-Key; Supplier Part Number 1: SI8452BA-A-IS1-ND; Supplier 2: Mouser; Supplier Part Number 2: 634-SI8452BA-A-IS1; AEC-Q100: FALSE; Mounting Technology: Surface Mount; Code_JEDEC: MS-012; Code_IPC: J-STD-020; ComponentLink1Description: Manufacturer URL; ComponentLink1URL: http://www.silabs.com/; ComponentLink2Description: Datasheet; ComponentLink2URL: http://www.silabs.com/Support%20Documents/TechnicalDocs/Si845x.pdf; ComponentLink3Description: Package Specification; ComponentLink3URL: http://www.silabs.com/Support%20Documents/TechnicalDocs/si2401.pdf
footprint SLAB-SOIC-16-NB_N (SOIC, 16-Leads, Body 9.9x3.9mm, Pitch 1.27mm, IPC Medium Density)
footprint SLAB-SOIC-16-NB_L (SOIC, 16-Leads, Body 9.9x3.9mm, Pitch 1.27mm, IPC High Density)
footprint SLAB-SOIC-16-NB_M (SOIC, 16-Leads, Body 9.9x3.9mm, Pitch 1.27mm, IPC Low Density)
pins: 1 VDD1 (power) "Side 1 power supply.", 2 A1 (in) "Side 1 digital input.", 3 A2 (in) "Side 1 digital input.", 4 A3 (in) "Side 1 digital input.", 5 A4 (out) "Side 1 digital output.", 6 A5 (out) "Side 1 digital output.", 7 EN1 (in) "Side 1 active high enable.", 8 GND1 (power) "Side 1 ground.", 9 GND2 (power) "Side 2 ground.", 10 EN2 (in) "Side 2 active high enable.", 11 B5 (in) "Side 2 digital input", 12 B4 (in) "Side 2 digital input", 13 B3 (out) "Side 2 digital output.", 14 B2 (out) "Side 2 digital output.", 15 B1 (out) "Side 2 digital output.", 16 VDD2 (power) "Side 2 power supply."

## Si8452BA-B-IS1
designator U?
Low Power Five-Channel Digital Isolator, 150 Mbps, 1 kVRMS Isolation Rating, -40 to 125 degC, 16-pin SOIC; Manufacturer: Silicon Labs; PartNumber: Si8452BA-B-IS1; 10kV surge: FALSE; Channel Type: Unidirectional; Enable Control: TRUE; Isolation Rating (kV): 1; Maximum Data Rate (Mbps): 150; Maximum Propagation Delay (ns): 9.5; Sub-Family: Isolators; DatasheetVersion: Rev. 1.4; PackageReference: SOIC-16-NB; PackageDescription: 16-Pin Small-Outline Integrated Circuit, Body 9.9 x 3.9 mm, Pitch 1.27 mm; Supplier 1: Digi-Key; Supplier Part Number 1: SI8452BA-B-IS1-ND; Supplier 2: Mouser; Supplier Part Number 2: 634-SI8452BA-B-IS1; AEC-Q100: FALSE; Mounting Technology: Surface Mount; Code_JEDEC: MS-012; Code_IPC: J-STD-020; ComponentLink1Description: Manufacturer URL; ComponentLink1URL: http://www.silabs.com/; ComponentLink2Description: Datasheet; ComponentLink2URL: http://www.silabs.com/Support%20Documents/TechnicalDocs/Si845x.pdf; ComponentLink3Description: Package Specification; ComponentLink3URL: http://www.silabs.com/Support%20Documents/TechnicalDocs/si2401.pdf
footprint SLAB-SOIC-16-NB_N (SOIC, 16-Leads, Body 9.9x3.9mm, Pitch 1.27mm, IPC Medium Density)
footprint SLAB-SOIC-16-NB_L (SOIC, 16-Leads, Body 9.9x3.9mm, Pitch 1.27mm, IPC High Density)
footprint SLAB-SOIC-16-NB_M (SOIC, 16-Leads, Body 9.9x3.9mm, Pitch 1.27mm, IPC Low Density)
pins: 1 VDD1 (power) "Side 1 power supply.", 2 A1 (in) "Side 1 digital input.", 3 A2 (in) "Side 1 digital input.", 4 A3 (in) "Side 1 digital input.", 5 A4 (hiz) "Side 1 digital output.", 6 A5 (hiz) "Side 1 digital output.", 7 EN1 (in) "Side 1 active high enable.", 8 GND1 (power) "Side 1 ground.", 9 GND2 (power) "Side 2 ground.", 10 EN2 (in) "Side 2 active high enable.", 11 B5 (in) "Side 2 digital input", 12 B4 (in) "Side 2 digital input", 13 B3 (hiz) "Side 2 digital output.", 14 B2 (hiz) "Side 2 digital output.", 15 B1 (hiz) "Side 2 digital output.", 16 VDD2 (power) "Side 2 power supply."

## Si8452BB-A-IS1
designator U?
Low Power Five-Channel Digital Isolator, 150 Mbps, 2.5 kVRMS Isolation Rating, -40 to 125 degC, 16-pin SOIC; Manufacturer: Silicon Labs; PartNumber: Si8452BB-A-IS1; 10kV surge: FALSE; Channel Type: Unidirectional; Enable Control: TRUE; Isolation Rating (kV): 2.5; Maximum Data Rate (Mbps): 150; Maximum Propagation Delay (ns): 9.5; Sub-Family: Isolators; DatasheetVersion: Rev. 1.4; PackageReference: SOIC-16-NB; PackageDescription: 16-Pin Small-Outline Integrated Circuit, Body 9.9 x 3.9 mm, Pitch 1.27 mm; Supplier 1: Digi-Key; Supplier Part Number 1: SI8452BB-A-IS1-ND; AEC-Q100: FALSE; Mounting Technology: Surface Mount; Code_JEDEC: MS-012; Code_IPC: J-STD-020; ComponentLink1Description: Manufacturer URL; ComponentLink1URL: http://www.silabs.com/; ComponentLink2Description: Datasheet; ComponentLink2URL: http://www.silabs.com/Support%20Documents/TechnicalDocs/Si845x.pdf; ComponentLink3Description: Package Specification; ComponentLink3URL: http://www.silabs.com/Support%20Documents/TechnicalDocs/si2401.pdf
footprint SLAB-SOIC-16-NB_N (SOIC, 16-Leads, Body 9.9x3.9mm, Pitch 1.27mm, IPC Medium Density)
footprint SLAB-SOIC-16-NB_L (SOIC, 16-Leads, Body 9.9x3.9mm, Pitch 1.27mm, IPC High Density)
footprint SLAB-SOIC-16-NB_M (SOIC, 16-Leads, Body 9.9x3.9mm, Pitch 1.27mm, IPC Low Density)
pins: 1 VDD1 (power) "Side 1 power supply.", 2 A1 (in) "Side 1 digital input.", 3 A2 (in) "Side 1 digital input.", 4 A3 (in) "Side 1 digital input.", 5 A4 (out) "Side 1 digital output.", 6 A5 (out) "Side 1 digital output.", 7 EN1 (in) "Side 1 active high enable.", 8 GND1 (power) "Side 1 ground.", 9 GND2 (power) "Side 2 ground.", 10 EN2 (in) "Side 2 active high enable.", 11 B5 (in) "Side 2 digital input", 12 B4 (in) "Side 2 digital input", 13 B3 (out) "Side 2 digital output.", 14 B2 (out) "Side 2 digital output.", 15 B1 (out) "Side 2 digital output.", 16 VDD2 (power) "Side 2 power supply."

## Si8452BB-B-IS1
designator U?
Low Power Five-Channel Digital Isolator, 150 Mbps, 2.5 kVRMS Isolation Rating, -40 to 125 degC, 16-pin SOIC; Manufacturer: Silicon Labs; PartNumber: Si8452BB-B-IS1; 10kV surge: FALSE; Channel Type: Unidirectional; Enable Control: TRUE; Isolation Rating (kV): 2.5; Maximum Data Rate (Mbps): 150; Maximum Propagation Delay (ns): 9.5; Sub-Family: Isolators; DatasheetVersion: Rev. 1.4; PackageReference: SOIC-16-NB; PackageDescription: 16-Pin Small-Outline Integrated Circuit, Body 9.9 x 3.9 mm, Pitch 1.27 mm; Supplier 1: Digi-Key; Supplier Part Number 1: SI8452BB-B-IS1-ND; Supplier 2: Mouser; Supplier Part Number 2: 634-SI8452BB-B-IS1; AEC-Q100: FALSE; Mounting Technology: Surface Mount; Code_JEDEC: MS-012; Code_IPC: J-STD-020; ComponentLink1Description: Manufacturer URL; ComponentLink1URL: http://www.silabs.com/; ComponentLink2Description: Datasheet; ComponentLink2URL: http://www.silabs.com/Support%20Documents/TechnicalDocs/Si845x.pdf; ComponentLink3Description: Package Specification; ComponentLink3URL: http://www.silabs.com/Support%20Documents/TechnicalDocs/si2401.pdf
footprint SLAB-SOIC-16-NB_N (SOIC, 16-Leads, Body 9.9x3.9mm, Pitch 1.27mm, IPC Medium Density)
footprint SLAB-SOIC-16-NB_L (SOIC, 16-Leads, Body 9.9x3.9mm, Pitch 1.27mm, IPC High Density)
footprint SLAB-SOIC-16-NB_M (SOIC, 16-Leads, Body 9.9x3.9mm, Pitch 1.27mm, IPC Low Density)
pins: 1 VDD1 (power) "Side 1 power supply.", 2 A1 (in) "Side 1 digital input.", 3 A2 (in) "Side 1 digital input.", 4 A3 (in) "Side 1 digital input.", 5 A4 (hiz) "Side 1 digital output.", 6 A5 (hiz) "Side 1 digital output.", 7 EN1 (in) "Side 1 active high enable.", 8 GND1 (power) "Side 1 ground.", 9 GND2 (power) "Side 2 ground.", 10 EN2 (in) "Side 2 active high enable.", 11 B5 (in) "Side 2 digital input", 12 B4 (in) "Side 2 digital input", 13 B3 (hiz) "Side 2 digital output.", 14 B2 (hiz) "Side 2 digital output.", 15 B1 (hiz) "Side 2 digital output.", 16 VDD2 (power) "Side 2 power supply."